# EAGLE library part STM32L021G4U6 (library circuit_tree)
IC
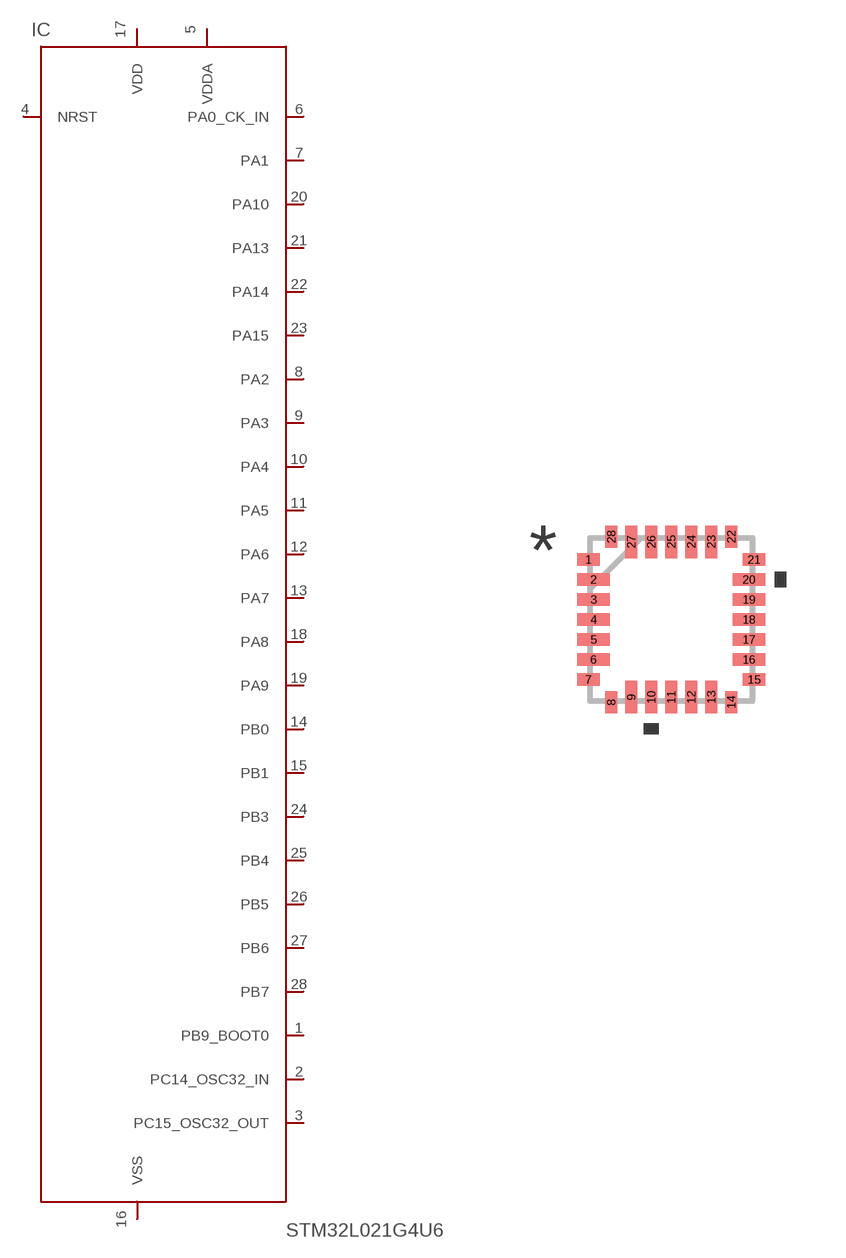
[diagram p6: symbol with the pads of UFQFPN28; footprint UFQFPN28]

Designator prefix IC

## STM32L021G4U6  [UFQFPN28]
1  PB9_BOOT0  pas
2  PC14_OSC32_IN  pas
3  PC15_OSC32_OUT  pas
4  NRST  pas
5  VDDA  pas
6  PA0_CK_IN  pas
7  PA1  pas
8  PA2  pas
9  PA3  pas
10  PA4  pas
11  PA5  pas
12  PA6  pas
13  PA7  pas
14  PB0  pas
15  PB1  pas
16  VSS  pas
17  VDD  pas
18  PA8  pas
19  PA9  pas
20  PA10  pas
21  PA13  pas
22  PA14  pas
23  PA15  pas
24  PB3  pas
25  PB4  pas
26  PB5  pas
27  PB6  pas
28  PB7  pas

## Footprint UFQFPN28 (pad centres in mm)
smd 0.559 x 0.305: 1 -2.07,1.5; 7 -2.07,-1.5; 15 2.07,-1.5; 21 2.07,1.5
smd 0.813 x 0.305: 2 -1.943,1; 3 -1.943,0.5; 4 -1.943,0; 5 -1.943,-0.5; 6 -1.943,-1; 16 1.943,-1; 17 1.943,-0.5; 18 1.943,0; 19 1.943,0.5; 20 1.943,1
smd 0.305 x 0.559: 8 -1.5,-2.07; 14 1.5,-2.07; 22 1.5,2.07; 28 -1.5,2.07
smd 0.305 x 0.813: 9 -1,-1.943; 10 -0.5,-1.943; 11 0,-1.943; 12 0.5,-1.943; 13 1,-1.943; 23 1,1.943; 24 0.5,1.943; 25 0,1.943; 26 -0.5,1.943; 27 -1,1.943